# EAGLE library part AT42QT1011 (library local_parts)
Atmel AT42QT1011 The AT42QT1011 (QT1011) is a digital burst mode charge-transfer (QT™) sensor that is capable of detecting nearproximity or touch, making it ideal for implementing touch controls. The QT1011 is designed specifically for human interfaces, like control panels, appliances, toys, lighting controls, or anywhere a mechanical switch or button may be found. It includes all hardware and signal processing functions necessary to provide stable sensing under a wide variety of changing conditions. Only a single low-cost capacitor is required for operation. This chip is identical to the AT42QT1010, however the capsense never times out. Reciprocally, the capsense on the 1010 times out after 60 seconds. Reference "Signal Processing" in the datasheet. Datasheet <http://www.atmel.com/images/Atmel-9542-AT42-QTouch-BSW-AT42QT1011_Datasheet.pdf> Sparkfun Products Sparkfun Capacitive Touch Breakout <https://www.sparkfun.com/products/12041> (SEN-12041)
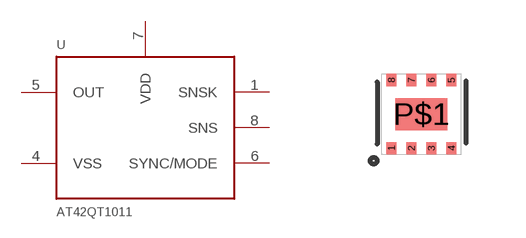
[diagram p1: symbol with the pads of UDFN/USON_8_PAD; footprint UDFN/USON_8_PAD]

Designator prefix -

## AT42QT1011  [UDFN/USON_8_PAD]
1  SNSK
4  VSS
5  OUT
6  SYNC/MODE
7  VDD
8  SNS

## Footprint UDFN/USON_8_PAD (pad centres in mm)
8-pin UDFN/USON Specifications: Pin Count: 8 Area: 2 x 1.5 mm Pitch: .5mm Devices Using AT42QT1010 AT42QT1011 AT42QT1012
smd 0.25 x 0.3: 1 -0.75,-0.852; 2 -0.25,-0.852; 3 0.25,-0.852; 4 0.75,-0.852; 5 0.75,0.852; 6 0.25,0.852; 7 -0.25,0.852; 8 -0.75,0.852
smd 1.3 x 0.8: P$1 0,0